# Altium footprint library PC_Test_Point_VCC.PcbLib: 1 footprints
Each footprint in its own frame and in the unit in brackets; x right, y up, seen from the top. Pads: shape width x height; smd on the part's side, far side on the other; paste and mask are expansions set on the pad; w line width, h text height; cw(c..) or ccw(c..) is an arc to the next point about the centre after c.
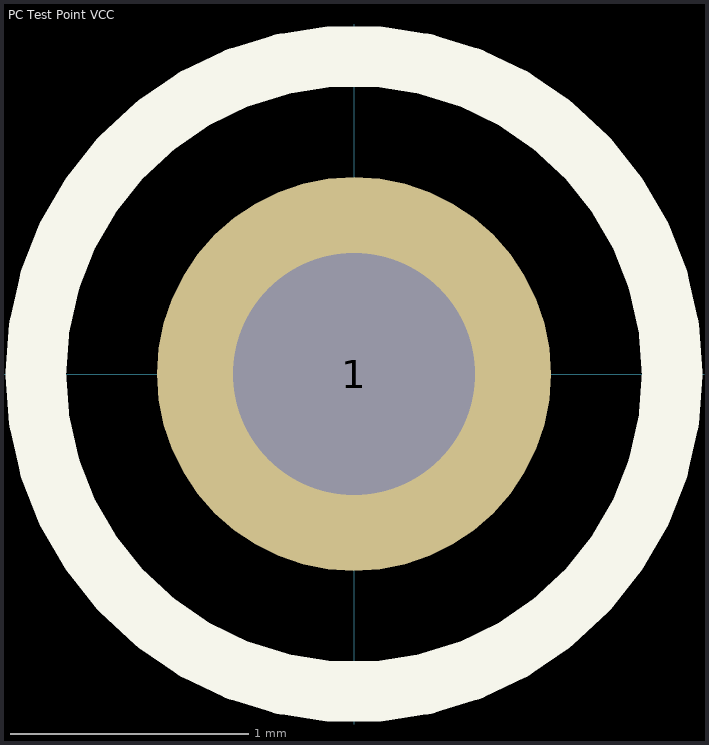
[diagram p0: the footprint, top view; thin cyan lines are the x and y axes]

## PC Test Point VCC [mil] "TEST POINT PC MINI .040\"D RED"
height 180
pads (1):
  round 65 hole 40: 1(0,0)
Top Overlay:
  circle w10: c0,0 r52.5
3D body: height 180, standoff 0, extent -49.6,-49.9 50,49.9